# Altium footprint library FMCW-Radar-v1.PcbLib: 49 footprints (part 4 of 4)
Each footprint in its own frame and in the unit in brackets; x right, y up, seen from the top. Pads: shape width x height; smd on the part's side, far side on the other; paste and mask are expansions set on the pad; w line width, h text height; cw(c..) or ccw(c..) is an arc to the next point about the centre after c.
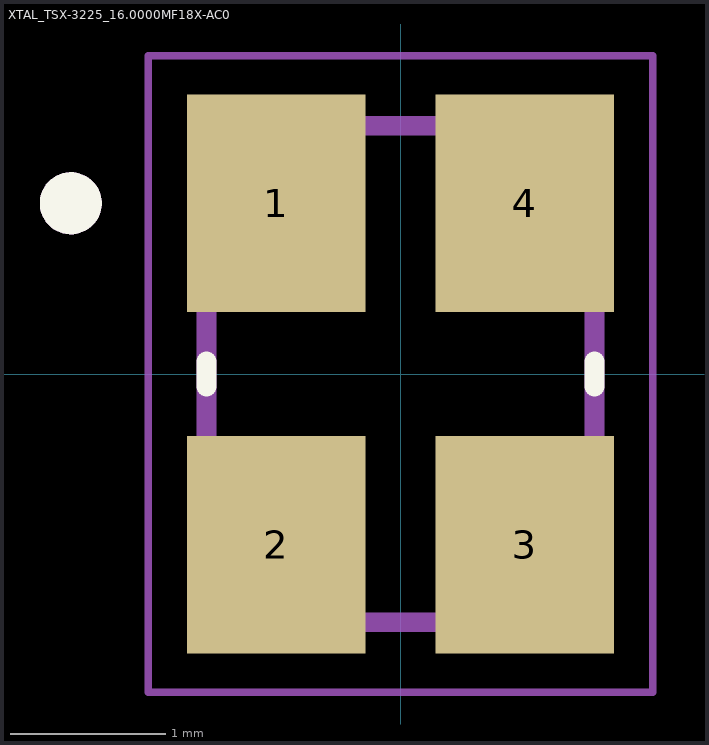
[diagram p3: the footprint, top view; thin cyan lines are the x and y axes]

## XTAL_TSX-3225_16.0000MF18X-AC0 [mm]
height 0.6
pads (4):
  rect 1.15x1.4 smd: 1(-0.8,1.1) 2(-0.8,-1.1) 3(0.8,-1.1) 4(0.8,1.1)
Top Overlay:
  circle w0.2: c-2.125,1.1 r0.1
  lines w0.127: -1.25,-0.08 -1.25,0.08 ; 1.25,-0.08 1.25,0.08
Top 3D Body:
  circle w0.2: c-2.125,1.1 r0.1
  lines w0.127: -1.25,-1.6 1.25,-1.6 1.25,1.6 -1.25,1.6 -1.25,-1.6
Top Courtyard:
  lines w0.05: -1.625,-2.05 1.625,-2.05 1.625,2.05 -1.625,2.05 -1.625,-2.05
3D body "step_temp.STEP": height 0.6, standoff 0, extent -1.6,-1.25 1.6,1.25